# Altium schematic symbol library Schlib1.SchLib: 26 symbols
Pins are listed as number, name and electrical type; pins without a type are passive.

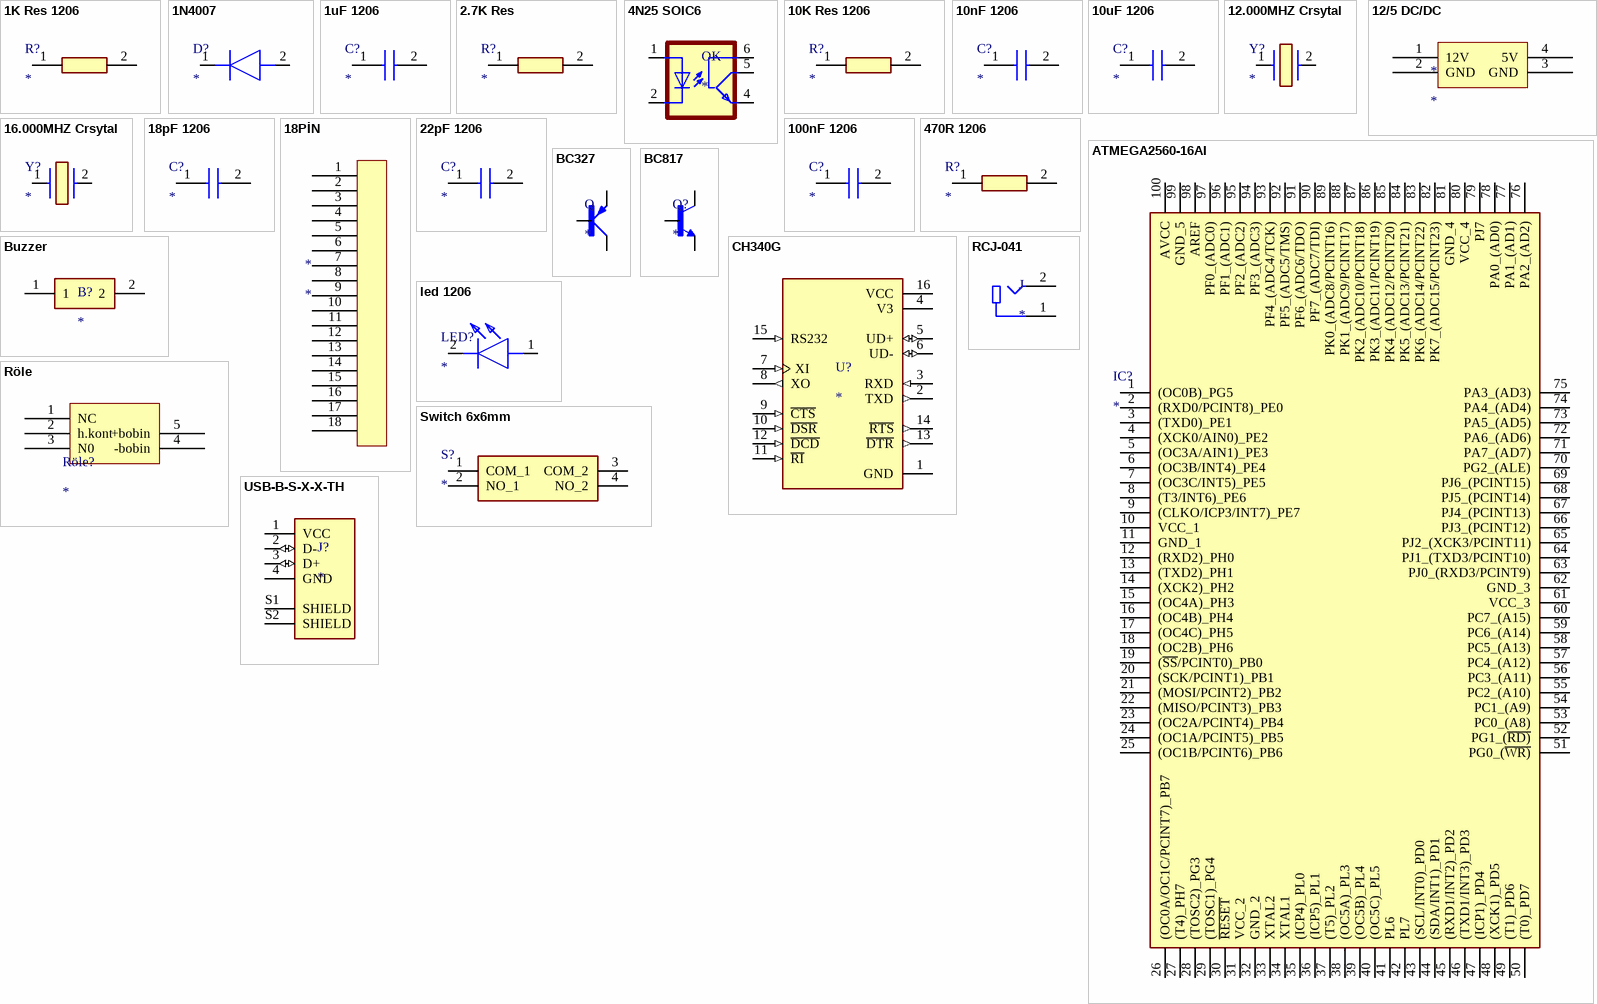
[diagram p0: symbols 1K Res 1206 to USB-B-S-X-X-TH]

## 1K Res 1206
designator R?
Resistor; Manufacturer_Name: Vishay; Manufacturer_Part_Number: CRCW120610K0DHEAP; Datasheet Link: http://componentsearchengine.com/Datasheets/1/CRCW120610K0DHEAP.pdf; Height: 0.6mm; Mouser Part Number: 71-CRCW120610K0DHEAP; Mouser Price/Stock: https://www.mouser.co.uk/ProductDetail/Vishay-Dale/CRCW120610K0DHEAP?qs=4BdzfeD6%252Bt0oQlLvLz8F%2Fg%3D%3D; Arrow Part Number: CRCW120610K0DHEAP; Arrow Price/Stock: https://www.arrow.com/en/products/crcw120610k0dheap/vishay
footprint RESC3216X60N ( 1206 )
pins: 1, 2

## 1N4007
designator D?
Diode; Manufacturer_Name: ROHM Semiconductor; Manufacturer_Part_Number: 1SS400SMT2R; Datasheet Link: https://datasheet.datasheetarchive.com/originals/distributors/Datasheets_SAMA/1cee01b15380e4b4ee81d9987647e9be.pdf; Height: 0.7mm; Mouser Part Number: 755-1SS400SMT2R; Mouser Price/Stock: https://www.mouser.co.uk/ProductDetail/ROHM-Semiconductor/1SS400SMT2R?qs=QcFhgjUTvvq%2Fjg4ayY%252BmJw%3D%3D; Arrow Part Number: 1SS400SMT2R; Arrow Price/Stock: https://www.arrow.com/en/products/1ss400smt2r/rohm-semiconductor
footprint SODFL1608X70N
pins: 1 K, 2 A

## 1uF 1206
designator C?
Capacitor; Manufacturer_Name: Murata Electronics; Manufacturer_Part_Number: GRM319F51H104ZA01D; Datasheet Link: https://datasheet.datasheetarchive.com/originals/distributors/Datasheets-DGA9/2502990.pdf; Height: 0.95mm; Mouser Part Number: 81-GRM319F51H104ZA; Mouser Price/Stock: https://www.mouser.com/Search/Refine.aspx?Keyword=81-GRM319F51H104ZA; Arrow Part Number: GRM319F51H104ZA01D; Arrow Price/Stock: https://www.arrow.com/en/products/grm319f51h104za01d/murata-manufacturing
footprint CAPC3216X95N(100nF 1206)
pins: 1, 2

## 2.7K Res
designator R?
Resistor; Manufacturer_Name: Vishay; Manufacturer_Part_Number: CRCW120610K0DHEAP; Datasheet Link: http://componentsearchengine.com/Datasheets/1/CRCW120610K0DHEAP.pdf; Height: 0.6mm; Mouser Part Number: 71-CRCW120610K0DHEAP; Mouser Price/Stock: https://www.mouser.co.uk/ProductDetail/Vishay-Dale/CRCW120610K0DHEAP?qs=4BdzfeD6%252Bt0oQlLvLz8F%2Fg%3D%3D; Arrow Part Number: CRCW120610K0DHEAP; Arrow Price/Stock: https://www.arrow.com/en/products/crcw120610k0dheap/vishay
footprint RESC3216X60N ( 1206 )
pins: 1, 2

## 4N25 SOIC6
designator OK
Optoisolator Transistor with Base Output 4170Vrms 1 Channel 6-SMD; MP: 4N25SM; MF: ON Semiconductor; Availability: Unavailable; SnapEDA_Link: https://www.snapeda.com/parts/4N25SM/ON%20Semiconductor/view-part/2630074/?ref=snap; Package: SMD-6 ON Semiconductor; Value: *; Price: None
footprint 4N25 SOIC6
pins: 1 A, 2 C, 4 EMI, 5 COL, 6 BAS

## 10K Res 1206
designator R?
Resistor; Manufacturer_Name: Vishay; Manufacturer_Part_Number: CRCW120610K0DHEAP; Datasheet Link: http://componentsearchengine.com/Datasheets/1/CRCW120610K0DHEAP.pdf; Height: 0.6mm; Mouser Part Number: 71-CRCW120610K0DHEAP; Mouser Price/Stock: https://www.mouser.co.uk/ProductDetail/Vishay-Dale/CRCW120610K0DHEAP?qs=4BdzfeD6%252Bt0oQlLvLz8F%2Fg%3D%3D; Arrow Part Number: CRCW120610K0DHEAP; Arrow Price/Stock: https://www.arrow.com/en/products/crcw120610k0dheap/vishay
footprint RESC3216X60N ( 1206 )
pins: 1, 2

## 10nF 1206
designator C?
Capacitor; Manufacturer_Name: Murata Electronics; Manufacturer_Part_Number: GRM319F51H104ZA01D; Datasheet Link: https://datasheet.datasheetarchive.com/originals/distributors/Datasheets-DGA9/2502990.pdf; Height: 0.95mm; Mouser Part Number: 81-GRM319F51H104ZA; Mouser Price/Stock: https://www.mouser.com/Search/Refine.aspx?Keyword=81-GRM319F51H104ZA; Arrow Part Number: GRM319F51H104ZA01D; Arrow Price/Stock: https://www.arrow.com/en/products/grm319f51h104za01d/murata-manufacturing
footprint CAPC3216X95N(100nF 1206)
pins: 1, 2

## 10uF 1206
designator C?
Capacitor; Manufacturer_Name: Murata Electronics; Manufacturer_Part_Number: GRM319F51H104ZA01D; Datasheet Link: https://datasheet.datasheetarchive.com/originals/distributors/Datasheets-DGA9/2502990.pdf; Height: 0.95mm; Mouser Part Number: 81-GRM319F51H104ZA; Mouser Price/Stock: https://www.mouser.com/Search/Refine.aspx?Keyword=81-GRM319F51H104ZA; Arrow Part Number: GRM319F51H104ZA01D; Arrow Price/Stock: https://www.arrow.com/en/products/grm319f51h104za01d/murata-manufacturing
footprint CAPC3216X95N(100nF 1206)
pins: 1, 2

## 12.000MHZ Crsytal
designator Y?
Crystal or Oscillator; Manufacturer_Name: ABRACON; Manufacturer_Part_Number: ABLS2-16.000MHZ-D4Y-T; Datasheet Link: https://abracon.com/Resonators/ABLS2.pdf; Mouser Part Number: 815-ABLS2-16-D4Y-T; Mouser Price/Stock: https://www.mouser.co.uk/ProductDetail/ABRACON/ABLS2-16.000MHZ-D4Y-T?qs=LoTOQoUkC8S5C2377M50iA%3D%3D; Arrow Part Number: ABLS2-16.000MHZ-D4Y-T; Arrow Price/Stock: https://www.arrow.com/en/products/abls2-16.000mhz-d4y-t/abracon?region=nac
footprint XTAL_Dip
pins: 1, 2

## 12/5 DC/DC
designator *
footprint 12/5V DC/DC
pins: 1 12V, 2 GND, 3 GND, 4 5V

## 16.000MHZ Crsytal
designator Y?
Crystal or Oscillator; Manufacturer_Name: ABRACON; Manufacturer_Part_Number: ABLS2-16.000MHZ-D4Y-T; Datasheet Link: https://abracon.com/Resonators/ABLS2.pdf; Mouser Part Number: 815-ABLS2-16-D4Y-T; Mouser Price/Stock: https://www.mouser.co.uk/ProductDetail/ABRACON/ABLS2-16.000MHZ-D4Y-T?qs=LoTOQoUkC8S5C2377M50iA%3D%3D; Arrow Part Number: ABLS2-16.000MHZ-D4Y-T; Arrow Price/Stock: https://www.arrow.com/en/products/abls2-16.000mhz-d4y-t/abracon?region=nac
footprint XTAL_Dip
pins: 1, 2

## 18pF 1206
designator C?
Capacitor; Manufacturer_Name: Murata Electronics; Manufacturer_Part_Number: GRM319F51H104ZA01D; Datasheet Link: https://datasheet.datasheetarchive.com/originals/distributors/Datasheets-DGA9/2502990.pdf; Height: 0.95mm; Mouser Part Number: 81-GRM319F51H104ZA; Mouser Price/Stock: https://www.mouser.com/Search/Refine.aspx?Keyword=81-GRM319F51H104ZA; Arrow Part Number: GRM319F51H104ZA01D; Arrow Price/Stock: https://www.arrow.com/en/products/grm319f51h104za01d/murata-manufacturing
footprint CAPC3216X95N(100nF 1206)
pins: 1, 2

## 18PİN
designator *
footprint 18x5,08
pins: 1, 2, 3, 4, 5, 6, 7, 8, 9, 10, 11, 12, 13, 14, 15, 16, 17, 18

## 22pF 1206
designator C?
Capacitor; Manufacturer_Name: Murata Electronics; Manufacturer_Part_Number: GRM319F51H104ZA01D; Datasheet Link: https://datasheet.datasheetarchive.com/originals/distributors/Datasheets-DGA9/2502990.pdf; Height: 0.95mm; Mouser Part Number: 81-GRM319F51H104ZA; Mouser Price/Stock: https://www.mouser.com/Search/Refine.aspx?Keyword=81-GRM319F51H104ZA; Arrow Part Number: GRM319F51H104ZA01D; Arrow Price/Stock: https://www.arrow.com/en/products/grm319f51h104za01d/murata-manufacturing
footprint CAPC3216X95N(100nF 1206)
pins: 1, 2

## 100nF 1206
designator C?
Capacitor; Manufacturer_Name: Murata Electronics; Manufacturer_Part_Number: GRM319F51H104ZA01D; Datasheet Link: https://datasheet.datasheetarchive.com/originals/distributors/Datasheets-DGA9/2502990.pdf; Height: 0.95mm; Mouser Part Number: 81-GRM319F51H104ZA; Mouser Price/Stock: https://www.mouser.com/Search/Refine.aspx?Keyword=81-GRM319F51H104ZA; Arrow Part Number: GRM319F51H104ZA01D; Arrow Price/Stock: https://www.arrow.com/en/products/grm319f51h104za01d/murata-manufacturing
footprint CAPC3216X95N(100nF 1206)
pins: 1, 2

## 470R 1206
designator R?
Resistor; Manufacturer_Name: Vishay; Manufacturer_Part_Number: CRCW120610K0DHEAP; Datasheet Link: http://componentsearchengine.com/Datasheets/1/CRCW120610K0DHEAP.pdf; Height: 0.6mm; Mouser Part Number: 71-CRCW120610K0DHEAP; Mouser Price/Stock: https://www.mouser.co.uk/ProductDetail/Vishay-Dale/CRCW120610K0DHEAP?qs=4BdzfeD6%252Bt0oQlLvLz8F%2Fg%3D%3D; Arrow Part Number: CRCW120610K0DHEAP; Arrow Price/Stock: https://www.arrow.com/en/products/crcw120610k0dheap/vishay
footprint RESC3216X60N ( 1206 )
pins: 1, 2

## ATMEGA2560-16AI
designator IC?
Integrated Circuit; Manufacturer_Name: Microchip; Manufacturer_Part_Number: ATMEGA2560-16AI; Datasheet Link: https://www.datasheet5.com/part/ATMEGA2560-16AI/Atmel%20Corporation#pdf-wrapper; Height: 1.2mm; Mouser Part Number: 556-ATMEGA2560-16AI; Mouser Price/Stock: https://www.mouser.co.uk/ProductDetail/Microchip-Technology-Atmel/ATMEGA2560-16AI?qs=b1J4i6otjZtlyidGHqdxdQ%3D%3D
footprint QFP50P1600X1600X120-100N
pins: 1 (OC0B)_PG5, 2 (RXD0/PCINT8)_PE0, 3 (TXD0)_PE1, 4 (XCK0/AIN0)_PE2, 5 (OC3A/AIN1)_PE3, 6 (OC3B/INT4)_PE4, 7 (OC3C/INT5)_PE5, 8 (T3/INT6)_PE6, 9 (CLKO/ICP3/INT7)_PE7, 10 VCC_1, 11 GND_1, 12 (RXD2)_PH0, 13 (TXD2)_PH1, 14 (XCK2)_PH2, 15 (OC4A)_PH3, 16 (OC4B)_PH4, 17 (OC4C)_PH5, 18 (OC2B)_PH6, 19 (~{SS}/PCINT0)_PB0, 20 (SCK/PCINT1)_PB1, 21 (MOSI/PCINT2)_PB2, 22 (MISO/PCINT3)_PB3, 23 (OC2A/PCINT4)_PB4, 24 (OC1A/PCINT5)_PB5, 25 (OC1B/PCINT6)_PB6, 26 (OC0A/OC1C/PCINT7)_PB7, 27 (T4)_PH7, 28 (TOSC2)_PG3, 29 (TOSC1)_PG4, 30 ~{RESET}, 31 VCC_2, 32 GND_2, 33 XTAL2, 34 XTAL1, 35 (ICP4)_PL0, 36 (ICP5)_PL1, 37 (T5)_PL2, 38 (OC5A)_PL3, 39 (OC5B)_PL4, 40 (OC5C)_PL5, 41 PL6, 42 PL7, 43 (SCL/INT0)_PD0, 44 (SDA/INT1)_PD1, 45 (RXD1/INT2)_PD2, 46 (TXD1/INT3)_PD3, 47 (ICP1)_PD4, 48 (XCK1)_PD5, 49 (T1)_PD6, 50 (T0)_PD7, 51 PG0_(~{WR)}, 52 PG1_(~{RD)}, 53 PC0_(A8), 54 PC1_(A9), 55 PC2_(A10), 56 PC3_(A11), 57 PC4_(A12), 58 PC5_(A13), 59 PC6_(A14), 60 PC7_(A15), 61 VCC_3, 62 GND_3, 63 PJ0_(RXD3/PCINT9), 64 PJ1_(TXD3/PCINT10), 65 PJ2_(XCK3/PCINT11), 66 PJ3_(PCINT12), 67 PJ4_(PCINT13), 68 PJ5_(PCINT14), 69 PJ6_(PCINT15), 70 PG2_(ALE), 71 PA7_(AD7), 72 PA6_(AD6), 73 PA5_(AD5), 74 PA4_(AD4), 75 PA3_(AD3), 76 PA2_(AD2), 77 PA1_(AD1), 78 PA0_(AD0), 79 PJ7, 80 VCC_4, 81 GND_4, 82 PK7_(ADC15/PCINT23), 83 PK6_(ADC14/PCINT22), 84 PK5_(ADC13/PCINT21), 85 PK4_(ADC12/PCINT20), 86 PK3_(ADC11/PCINT19), 87 PK2_(ADC10/PCINT18), 88 PK1_(ADC9/PCINT17), 89 PK0_(ADC8/PCINT16), 90 PF7_(ADC7/TDI), 91 PF6_(ADC6/TDO), 92 PF5_(ADC5/TMS), 93 PF4_(ADC4/TCK), 94 PF3_(ADC3), 95 PF2_(ADC2), 96 PF1_(ADC1), 97 PF0_(ADC0), 98 AREF, 99 GND_5, 100 AVCC

## BC327
designator Q
SMALL SIGNAL BIPOLAR TRANSISTOR; MF: ON Semiconductor; MP: BC327; Value: *; Price: None; Package: TO-226-3 ITT / Cannon; Availability: Unavailable; SnapEDA_Link: https://www.snapeda.com/parts/BC327/ON%20Semiconductor/view-part/2152126/?ref=snap
footprint SOT54A
pins: B, C, E

## BC817
designator Q?
Bipolar _BJT_ Transistor NPN 45V 500mA 100MHz 300mW Surface Mount SOT-23-3 _TO-236_; MF: Nexperia USA; MP: BC817; Availability: Unavailable; Package: SOT-23-3 Rectron; Price: None; SnapEDA_Link: https://www.snapeda.com/parts/BC817/Nexperia%20USA%20Inc./view-part/4219270/?ref=snap; Value: *
footprint BC817 Sot23
pins: 1 B, 2 E, 3 C

## Buzzer
designator B?
TERMINAL BLOCK,HEADER, 5.08 MM, 2WAY; Product Range:-; Gender:Header; MF: TE Connectivity; MP: 282814-2; EU_RoHS_Compliance: Compliant; SnapEDA_Link: https://www.snapeda.com/parts/282814-2/TE%20Connectivity%20AMP%20Connectors/view-part/2381383/?ref=snap; Availability: Unavailable; Price: None; Package: None; TE_purchase_URL: https://www.te.com/usa-en/product-282814-2.html?te_bu=Cor&te_type=disp&te_campaign=seda_glo_cor-seda-global-disp-prtnr-fy19-seda-model-bom-cta_sma-317_1&elqCampaignId=32493; Value: *
footprint Buzzer
pins: 1, 2

## CH340G
designator U?
MP: CH340G; Value: *; Package: None; Availability: Unavailable; Price: None
footprint SOIC16
pins: 1 GND (power), 2 TXD (out), 3 RXD (in), 4 V3 (power), 5 UD+ (io), 6 UD- (io), 7 XI (in), 8 XO (out), 9 ~{CTS} (in), 10 ~{DSR} (in), 11 ~{RI} (in), 12 ~{DCD} (in), 13 ~{DTR} (out), 14 ~{RTS} (out), 15 RS232 (in), 16 VCC (power)

## led 1206
designator LED?
LED; Manufacturer_Name: Wurth Elektronik; Manufacturer_Part_Number: 15412085A9000; Datasheet Link: https://www.we-online.com/catalog/datasheet/15412085A9000.pdf; Height: 1.21mm; Mouser Part Number: 710-15412085A9000; Mouser Price/Stock: https://www.mouser.co.uk/ProductDetail/Wurth-Elektronik/15412085A9000?qs=u16ybLDytRakpVDTKYCvNw%3D%3D
footprint led 1206
pins: 1 A, 2 K

## RCJ-041
designator J
Metal Right-Angle, RCA Jack, Black Housing and Insulation; MP: RCJ-041; MF: CUI Devices; Price: None; Package: None; Value: *; Availability: Unavailable; SnapEDA_Link: https://www.snapeda.com/parts/RCJ-041/CUI%20Devices/view-part/2873310/?ref=snap
footprint RCA
pins: 1, 2

## Röle
designator Röle?
footprint Röle
pins: 1 NC, 2 h.kont, 3 N0, 4 -bobin, 5 +bobin

## Switch 6x6mm
designator S?
Switch; Manufacturer_Name: Wurth Elektronik; Manufacturer_Part_Number: 430182070816; Datasheet Link: https://datasheet.datasheetarchive.com/originals/distributors/DKDS-9/165015.pdf; Height: 7.15mm; Mouser Part Number: 710-430182070816; Mouser Price/Stock: https://www.mouser.co.uk/ProductDetail/Wurth-Elektronik/430182070816?qs=wr8lucFkNMXtq9RwGFkUbg%3D%3D
footprint 6x6x8mm Push Buton
pins: 1 COM_1, 2 NO_1, 3 COM_2, 4 NO_2

## USB-B-S-X-X-TH
designator J?
USB-B (USB TYPE-B) USB 2.0 Receptacle Connector 4 Position Through Hole, Right Angle; MP: USB-B-S-X-X-TH; Package: None; Price: None; Availability: Unavailable; Value: *
footprint USB-B-S-X-X-TH
pins: 1 VCC (power), 2 D- (io), 3 D+ (io), 4 GND (power), S1 SHIELD, S2 SHIELD